# Altium schematic symbol library TPS6122x.SchLib: 1 symbol
Pins are listed as number, name and electrical type; pins without a type are passive.

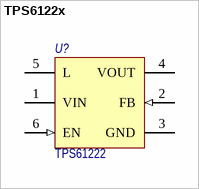
[diagram p0: symbol TPS6122x]

## TPS6122x
designator U?, comment TPS61222
Boost Voltage Converter with 0.7 to 5.5 V Input and 5 V Output, -40 to 85 degC, 6-Pin SC70 (DCK), Green (RoHS & no Sb/Br); Потребление, Вт: 0.01; ComponentLink1URL: http://www.ti.com/general/docs/lit/getliterature.tsp?genericPartNumber=TPS61222&fileType=pdf; ComponentLink2Description: Package Specification; ComponentLink1Description: Datasheet; ComponentLink2URL: http://www.ti.com/litv/pdf/mpds114c; Назначение: Boost Voltage Converter with 0.7 to 5.5 V Input and 5 V Output; Наименование: TPS61222
footprint SC-70_6
pins: 1 VIN (power) "Boost converter input voltage", 2 FB (in) "Voltage feedback of adjustable version. Must be connected to VOUT at fixed output voltage versions.", 3 GND (power) "Control / logic and power ground", 4 VOUT (power) "Boost converter output voltage", 5 L (power) "Connection for Inductor", 6 EN (in) "Enable input (1: enabled, 0: disabled). Must be actively tied high or low."